# EAGLE library part CY8C27243 (library rfid)
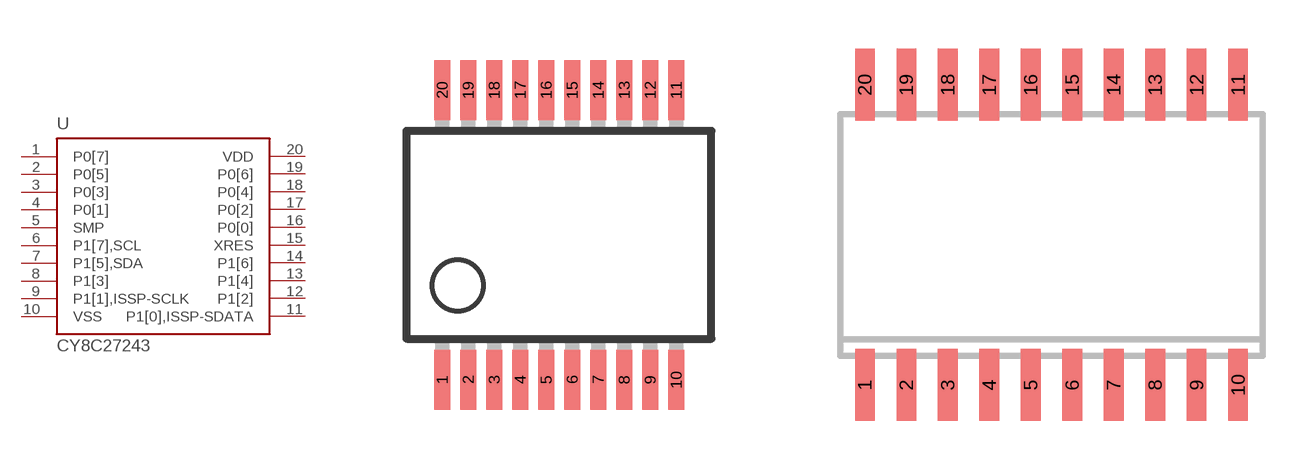
[diagram p6: symbol with the pads of SSOP20; footprints SSOP20, SO20W]

Designator prefix U

## CY8C27243-24PVXI  [SSOP20]
1  P0[7]
2  P0[5]
3  P0[3]
4  P0[1]
5  SMP
6  P1[7],SCL
7  P1[5],SDA
8  P1[3]
9  P1[1],ISSP-SCLK
10  VSS
11  P1[0],ISSP-SDATA
12  P1[2]
13  P1[4]
14  P1[6]
15  XRES
16  P0[0]
17  P0[2]
18  P0[4]
19  P0[6]
20  VDD

## CY8C27243-24SXI  [SO20W]
Pads as for SSOP20

## Footprint SSOP20 (pad centres in mm)
Shrink Small Outline Package package type SS
smd 0.4 x 1.5: 1 -2.925,-3.625; 2 -2.275,-3.625; 3 -1.625,-3.625; 4 -0.975,-3.625; 5 -0.325,-3.625; 6 0.325,-3.625; 7 0.975,-3.625; 8 1.625,-3.625; 9 2.275,-3.625; 10 2.925,-3.625; 11 2.925,3.625; 12 2.275,3.625; 13 1.625,3.625; 14 0.975,3.625; 15 0.325,3.625; 16 -0.325,3.625; 17 -0.975,3.625; 18 -1.625,3.625; 19 -2.275,3.625; 20 -2.925,3.625

## Footprint SO20W (pad centres in mm)
SMALL OUTLINE INTEGRATED CIRCUIT wide body 7.5 mm/JEDEC MS-013AC
smd 0.6 x 2.2: 1 -5.715,-4.6; 2 -4.445,-4.6; 3 -3.175,-4.6; 4 -1.905,-4.6; 5 -0.635,-4.6; 6 0.635,-4.6; 7 1.905,-4.6; 8 3.175,-4.6; 9 4.445,-4.6; 10 5.715,-4.6; 11 5.715,4.6; 12 4.445,4.6; 13 3.175,4.6; 14 1.905,4.6; 15 0.635,4.6; 16 -0.635,4.6; 17 -1.905,4.6; 18 -3.175,4.6; 19 -4.445,4.6; 20 -5.715,4.6